# EAGLE library part 74LVC2G04GW,125 (library 74LVC2G04GW_125)
NEXPERIA - 74LVC2G04GW,125 - INVERTER GATE, 2 I/P, SC-88-6 Source: Datasheet <https://componentsearchengine.com/Datasheets/1/74LVC2G04GW,125.pdf>
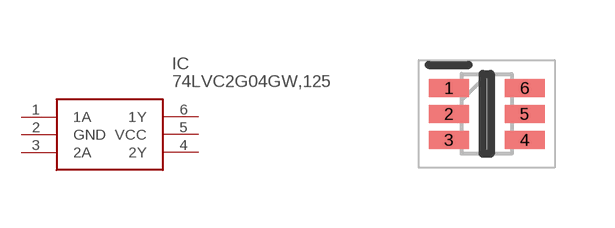
[diagram p0: symbol with the pads of SOT65P210X110-6N; footprint SOT65P210X110-6N]

Designator prefix IC

## 74LVC2G04GW,125 (Description: NEXPERIA - 74LVC2G04GW,125 - INVERTER GATE, 2 I/P, SC-88-6; Height: 1.1mm; Manufacturer_Name: Nexperia; Manufacturer_Part_Number: 74LVC2G04GW,125; Mouser_Part_Number: 771-74LVC2G04GW-G; Mouser_Price-Stock: https://www.mouser.com/Search/Refine.aspx?Keyword=771-74LVC2G04GW-G)  [SOT65P210X110-6N]
1  1A
2  GND
3  2A
4  2Y
5  VCC
6  1Y

## Footprint SOT65P210X110-6N (pad centres in mm)
SOT363 (SC-88)
smd 1 x 0.45: 1 -0.95,0.65; 2 -0.95,0; 3 -0.95,-0.65; 4 0.95,-0.65; 5 0.95,0; 6 0.95,0.65